# Altium schematic symbol library TAS5805M.SchLib: 2 symbols
Pins are listed as number, name and electrical type; pins without a type are passive.

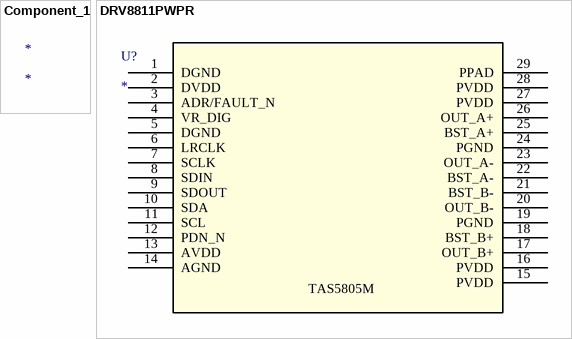
[diagram p0: symbols Component_1 to DRV8811PWPR]

## Component_1
designator *

## DRV8811PWPR
designator U?
Imported; Manufacturer: Texas Instruments; Manufacturer_Part_Number: DRV8811PWPR; Built_By: EMA_UL_Team; C: Copyright (C) 2015 Accelerated Designs. All rights reserved; Vendor: Texas Instruments; RefDes: RefDes; Type: DEV; Value: Value
footprint PWP28_5P18X3P1
pins: 1 DGND (power), 2 DVDD (power), 3 ADR/FAULT_N (power), 4 VR_DIG (power), 5 DGND (power), 6 LRCLK (power), 7 SCLK (power), 8 SDIN (power), 9 SDOUT (power), 10 SDA (power), 11 SCL (power), 12 PDN_N (power), 13 AVDD (power), 14 AGND (power), 15 PVDD (power), 16 PVDD (power), 17 OUT_B+ (power), 18 BST_B+ (power), 19 PGND (power), 20 OUT_B- (power), 21 BST_B- (power), 22 BST_A- (power), 23 OUT_A- (power), 24 PGND (power), 25 BST_A+ (power), 26 OUT_A+ (power), 27 PVDD (power), 28 PVDD (power), 29 PPAD
text: TAS5805M